# EAGLE library part CD74HC4067SM96 (library CD74HC4067SM96)
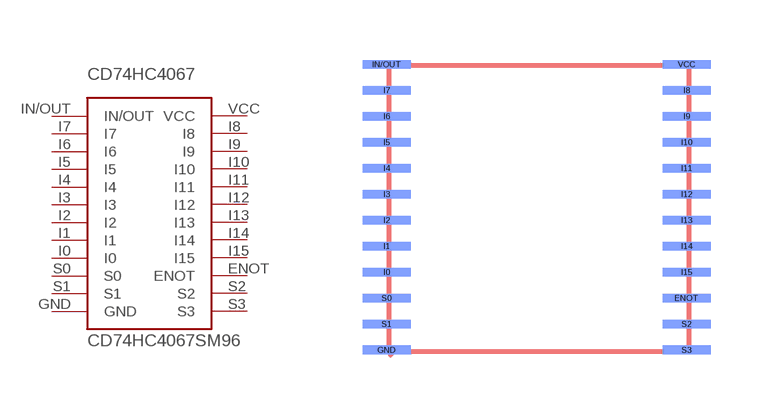
[diagram p0: symbol with the pads of CD74HC4067SM96; footprint CD74HC4067SM96]

Designator prefix CD74HC4067

## CD74HC4067SM96  [CD74HC4067SM96]
ENOT  ENOT
GND  GND
I0  I0
I1  I1
I2  I2
I3  I3
I4  I4
I5  I5
I6  I6
I7  I7
I8  I8
I9  I9
I10  I10
I11  I11
I12  I12
I13  I13
I14  I14
I15  I15
IN/OUT  IN/OUT
S0  S0
S1  S1
S2  S2
S3  S3
VCC  VCC

## Footprint CD74HC4067SM96 (pad centres in mm)
smd 1.2 x 0.22 bottom: ENOT 7.4,-5.875; GND -0.1,-7.175; I0 -0.1,-5.225; I1 -0.1,-4.575; I2 -0.1,-3.925; I3 -0.1,-3.275; I4 -0.1,-2.625; I5 -0.1,-1.975; I6 -0.1,-1.325; I7 -0.1,-0.675; I8 7.4,-0.675; I9 7.4,-1.325; I10 7.4,-1.975; I11 7.4,-2.625; I12 7.4,-3.275; I13 7.4,-3.925; I14 7.4,-4.575; I15 7.4,-5.225; IN/OUT -0.1,-0.025; S0 -0.1,-5.875; S1 -0.1,-6.525; S2 7.4,-6.525; S3 7.4,-7.175; VCC 7.4,-0.025